# Altium integrated library SparkFun-Fuses.Library.IntLib: 6 symbols
Pins are listed as number, name and electrical type; pins without a type are passive.

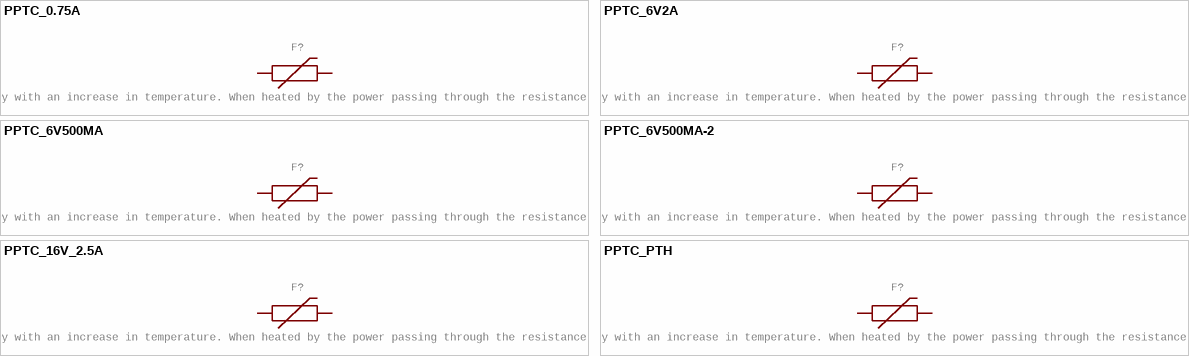
[diagram p0: symbols PPTC_0.75A to PPTC_PTH]

## PPTC_0.75A
designator F?, comment Resettable Fuse PPTC    Resettable Fuse. Really a sort of resistor with a polymeric positive temperature coefficient whose resistance increases dramatically with an increase in temperature. When heated by the power passing through the resistance rises causing the current to be limited, protecting the circuit. This is achieved by the transition of the polymer from a crystalline to an amorphous state where the conductive carbon separates breaking the conductive pathways found in the cool crystalline structure. When a PPTC cools back down it resumes conducting letting the circuit turn back on.   SparkFun Products:  SparkFun RedBoard - Programmed with Arduino  Pro Micro - 5V/16MHz  Arduino Pro 328 - 5V/16MHz  MP3 Trigger
GateName_1: F1; DeviceName: _0.75A; PROD_ID: RES-11150; SymbolName_1: PPTC; LibraryName: SparkFun-Fuses; DeviceSetName: PPTC; Package: 1206
footprint 1206
pins: 1 (io), 2 (io)

## PPTC_6V2A
designator F?, comment Resettable Fuse PPTC    Resettable Fuse. Really a sort of resistor with a polymeric positive temperature coefficient whose resistance increases dramatically with an increase in temperature. When heated by the power passing through the resistance rises causing the current to be limited, protecting the circuit. This is achieved by the transition of the polymer from a crystalline to an amorphous state where the conductive carbon separates breaking the conductive pathways found in the cool crystalline structure. When a PPTC cools back down it resumes conducting letting the circuit turn back on.   SparkFun Products:  SparkFun RedBoard - Programmed with Arduino  Pro Micro - 5V/16MHz  Arduino Pro 328 - 5V/16MHz  MP3 Trigger
GateName_1: F1; DeviceName: _6V2A; PROD_ID: RES-14313; SymbolName_1: PPTC; LibraryName: SparkFun-Fuses; DeviceSetName: PPTC; Package: 1210
footprint 1210
pins: 1 (io), 2 (io)

## PPTC_6V500MA
designator F?, comment Resettable Fuse PPTC    Resettable Fuse. Really a sort of resistor with a polymeric positive temperature coefficient whose resistance increases dramatically with an increase in temperature. When heated by the power passing through the resistance rises causing the current to be limited, protecting the circuit. This is achieved by the transition of the polymer from a crystalline to an amorphous state where the conductive carbon separates breaking the conductive pathways found in the cool crystalline structure. When a PPTC cools back down it resumes conducting letting the circuit turn back on.   SparkFun Products:  SparkFun RedBoard - Programmed with Arduino  Pro Micro - 5V/16MHz  Arduino Pro 328 - 5V/16MHz  MP3 Trigger
GateName_1: F1; DeviceName: _6V500MA; PROD_ID: RES-13945; SymbolName_1: PPTC; LibraryName: SparkFun-Fuses; DeviceSetName: PPTC; Package: 0805
footprint 0805
pins: 1 (io), 2 (io)

## PPTC_6V500MA-2
designator F?, comment Resettable Fuse PPTC    Resettable Fuse. Really a sort of resistor with a polymeric positive temperature coefficient whose resistance increases dramatically with an increase in temperature. When heated by the power passing through the resistance rises causing the current to be limited, protecting the circuit. This is achieved by the transition of the polymer from a crystalline to an amorphous state where the conductive carbon separates breaking the conductive pathways found in the cool crystalline structure. When a PPTC cools back down it resumes conducting letting the circuit turn back on.   SparkFun Products:  SparkFun RedBoard - Programmed with Arduino  Pro Micro - 5V/16MHz  Arduino Pro 328 - 5V/16MHz  MP3 Trigger
GateName_1: F1; DeviceName: _6V500MA-2; PROD_ID: RES-08585; SymbolName_1: PPTC; LibraryName: SparkFun-Fuses; DeviceSetName: PPTC; Package: 1206
footprint 1206
pins: 1 (io), 2 (io)

## PPTC_16V_2.5A
designator F?, comment Resettable Fuse PPTC    Resettable Fuse. Really a sort of resistor with a polymeric positive temperature coefficient whose resistance increases dramatically with an increase in temperature. When heated by the power passing through the resistance rises causing the current to be limited, protecting the circuit. This is achieved by the transition of the polymer from a crystalline to an amorphous state where the conductive carbon separates breaking the conductive pathways found in the cool crystalline structure. When a PPTC cools back down it resumes conducting letting the circuit turn back on.   SparkFun Products:  SparkFun RedBoard - Programmed with Arduino  Pro Micro - 5V/16MHz  Arduino Pro 328 - 5V/16MHz  MP3 Trigger
GateName_1: F1; DeviceName: _16V_2.5A; PROD_ID: RES-14390; SymbolName_1: PPTC; LibraryName: SparkFun-Fuses; DeviceSetName: PPTC; Package: 1812
footprint 1812
pins: 1 (io), 2 (io)

## PPTC_PTH
designator F?, comment Resettable Fuse PPTC    Resettable Fuse. Really a sort of resistor with a polymeric positive temperature coefficient whose resistance increases dramatically with an increase in temperature. When heated by the power passing through the resistance rises causing the current to be limited, protecting the circuit. This is achieved by the transition of the polymer from a crystalline to an amorphous state where the conductive carbon separates breaking the conductive pathways found in the cool crystalline structure. When a PPTC cools back down it resumes conducting letting the circuit turn back on.   SparkFun Products:  SparkFun RedBoard - Programmed with Arduino  Pro Micro - 5V/16MHz  Arduino Pro 328 - 5V/16MHz  MP3 Trigger
GateName_1: F1; DeviceName: _PTH; PROD_ID: RES-08490; SymbolName_1: PPTC; LibraryName: SparkFun-Fuses; DeviceSetName: PPTC; Package: PTH
footprint PTH
pins: P$1 1 (io), P$2 2 (io)